# Altium schematic symbol library 6834-4500PL.SchLib: 1 symbol
Pins are listed as number, name and electrical type; pins without a type are passive.

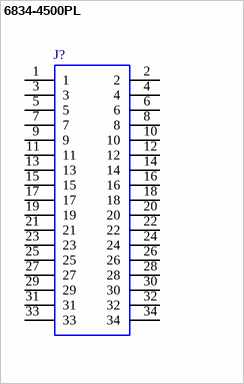
[diagram p0: symbol 6834-4500PL]

## 6834-4500PL
designator J?
Headers & Wire Housings 34P STR PLRZD SKT; Manufacturer_Name: 3M; Geometry.Height: 7.5mm; Mouser Part Number: 517-6834-4500PL; Mouser Price/Stock: *; Manufacturer_Part_Number: 6834-4500PL; Datasheet Link: https://componentsearchengine.com/Datasheets/1/6834-4500PL.pdf
footprint RHDR34W66P254_2X17_4770X610X750P
pins: 1, 2, 3, 4, 5, 6, 7, 8, 9, 10, 11, 12, 13, 14, 15, 16, 17, 18, 19, 20, 21, 22, 23, 24, 25, 26, 27, 28, 29, 30, 31, 32, 33, 34